# EAGLE library part DS2431 (library ads4)
Maxim DS2431 1-wire 1k EEPROM
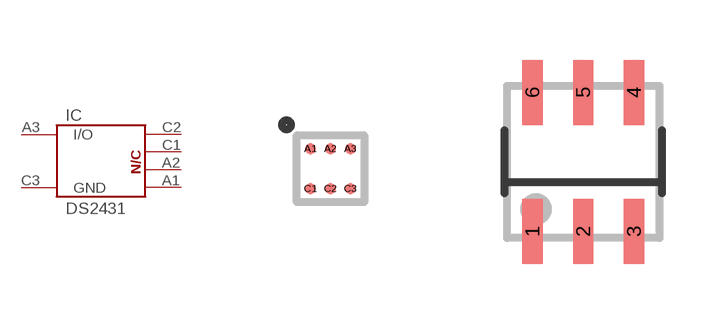
[diagram p79: symbol with the pads of UCSP3X3_6PIN; footprints UCSP3X3_6PIN, TSOC6]

Designator prefix IC

## DS2431X  [UCSP3X3_6PIN]
A1  NC1  pas
A2  NC2  pas
A3  I/O  pas
C1  NC3  pas
C2  NC4  pas
C3  GND  pas

## DS2431P  [TSOC6]
1  GND  pas
2  I/O  pas
3  NC1  pas
4  NC2  pas
5  NC3  pas
6  NC4  pas

## Footprint UCSP3X3_6PIN (pad centres in mm)
Maxim 3x3 uCSP package with 6 pins
smd 0.279 x 0.279: A1 -0.5,0.5; A2 0,0.5; A3 0.5,0.5; C1 -0.5,-0.5; C2 0,-0.5; C3 0.5,-0.5

## Footprint TSOC6 (pad centres in mm)
Maxim TSOC 6-pin package See Maxim drawing 56-G2016-001 Rev. C
smd 0.508 x 1.626: 1 -1.27,-1.74; 2 0,-1.74; 3 1.27,-1.74; 4 1.27,1.74; 5 0,1.74; 6 -1.27,1.74